# EAGLE library part LT1236BILS8-5PBF (library SquantorLinearTechnology)
V REF, 40VIN, 5V, 0.1%, 10PPM/C, 8LCC
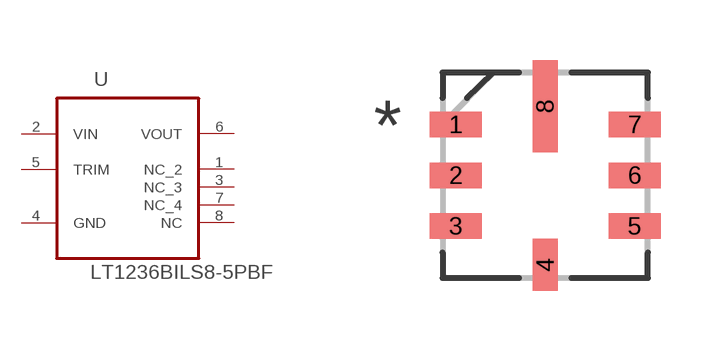
[diagram p0: symbol with the pads of LCC127P500X500X155-8N; footprint LCC127P500X500X155-8N]

Designator prefix U

## LT1236BILS8-5PBF (MPN: LT1236BILS8-5#PBF; OC_FARNELL: 2215174; OC_NEWARK: 27W9520; PACKAGE: 8LCC; SUPPLIER: LINEAR TECHNOLOGY)  [LCC127P500X500X155-8N]
1  NC_2  nc
2  VIN  in
3  NC_3  nc
4  GND  pas
5  TRIM  in
6  VOUT  out
7  NC_4  nc
8  NC  nc

## Footprint LCC127P500X500X155-8N (pad centres in mm)
smd 1.295 x 0.635: 1 -2.235,1.27; 2 -2.235,0; 3 -2.235,-1.27; 5 2.235,-1.27; 6 2.235,0; 7 2.235,1.27
smd 0.635 x 1.295: 4 0,-2.235
smd 0.635 x 2.311: 8 0,1.727